# EAGLE library part TDA2052 (library Audio-Power-amlifier)
TDA2052 60W Hi-Fi AUDIO POWER AMPLIFIER WITH MUTE / STAND-BY
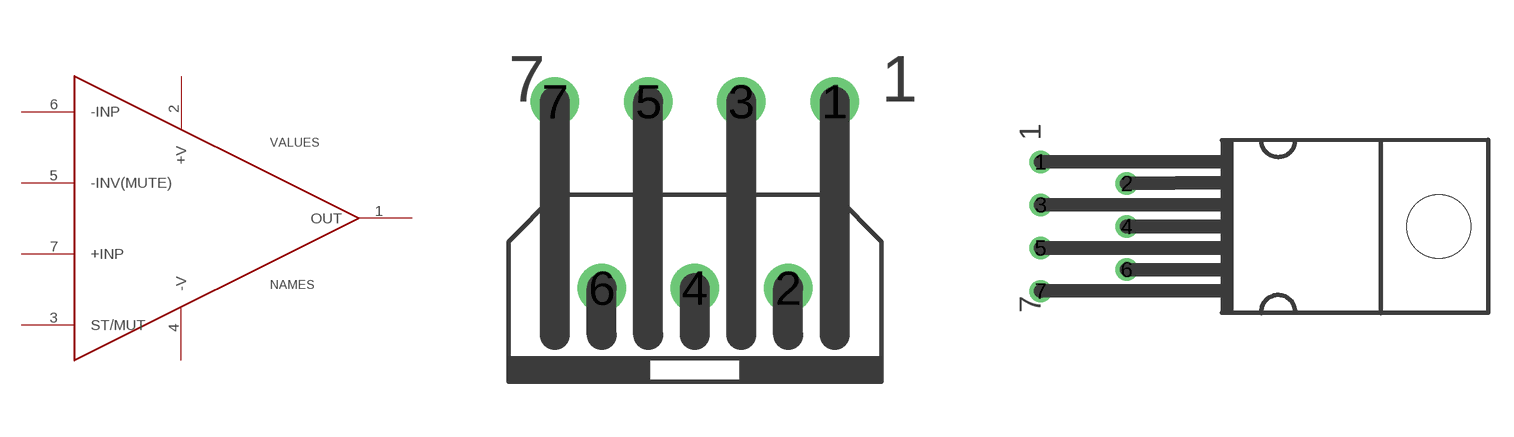
[diagram p26: symbol with the pads of HEPTAWATT; footprints HEPTAWATT, HEPTAW.H]

Designator prefix -

## TDA2052TDA2052V  [HEPTAWATT]
1  OUT  out
2  +V  pwr
3  ST/MUT
4  -V  pwr
5  -INV(MUTE)  in
6  -INP  in
7  +INP  in

## TDA2052TDA2052H  [HEPTAW.H]
Pads as for HEPTAWATT

## Footprint HEPTAWATT (pad centres in mm)
HEPTAWATT 7
drill 0.813: 1 3.81,5.08; 2 2.54,0; 3 1.27,5.08; 4 0,0; 5 -1.27,5.08; 6 -2.54,0; 7 -3.81,5.08

## Footprint HEPTAW.H (pad centres in mm)
drill 0.813: 1 -11.43,3.81; 2 -6.35,2.54; 3 -11.43,1.27; 4 -6.35,0; 5 -11.43,-1.27; 6 -6.35,-2.54; 7 -11.43,-3.81
hole 3.75 at 12.05,0